# EAGLE library part MICROCHIP_MCP1725MC (library chipKIT_Max32)
500mA Low Voltage, Low Quiescent Current LDO Regulator
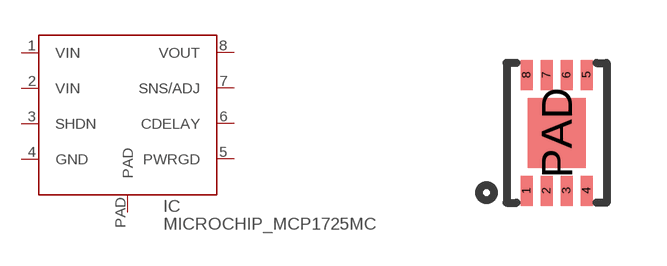
[diagram p8: symbol with the pads of MICROCHIP_DFN8-MC; footprint MICROCHIP_DFN8-MC]

Designator prefix IC

## MICROCHIP_MCP1725MC  [MICROCHIP_DFN8-MC]
1  VIN
2  VIN
3  SHDN
4  GND
5  PWRGD
6  CDELAY
7  SNS/ADJ
8  VOUT
PAD  PAD

## Footprint MICROCHIP_DFN8-MC (pad centres in mm)
smd 0.3 x 0.75: 1 -0.75,-1.45; 2 -0.25,-1.45; 3 0.25,-1.45; 4 0.75,-1.45; 5 0.75,1.45; 6 0.25,1.45; 7 -0.25,1.45; 8 -0.75,1.45
smd 1.45 x 1.75: PAD 0,0